# Altium schematic symbol library Schlib1.SchLib: 6 symbols
Pins are listed as number, name and electrical type; pins without a type are passive.

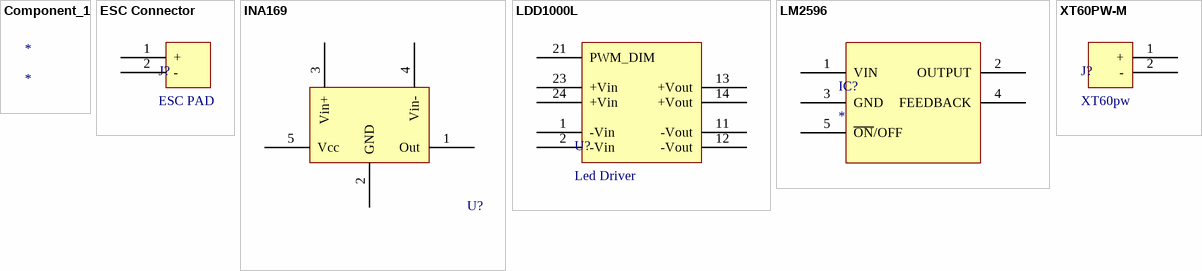
[diagram p0: symbols Component_1 to XT60PW-M]

## Component_1
designator *

## ESC Connector
designator J?, comment ESC PAD
footprint ESC Connector
pins: 1 +, 2 -

## INA169
designator U?
Current sensing IC
footprint INA169 (SOT23, 5-Leads, Body 2,90x2,80mm, Pitch 0,95mm, IPC Medium Density)
pins: 1 Out, 2 GND, 3 Vin+, 4 Vin-, 5 Vcc

## LDD1000L
designator U?, comment Led Driver
LDD 1000L 12V 1A; ComponentLink1Description: New link; ComponentLink1URL: https://www.meanwell-web.com/en-gb/dc-dc-step-down-led-driver-constant-current-cc-ldd--1000l
footprint LDD100l
pins: 1 -Vin, 2 -Vin, 11 -Vout, 12 -Vout, 13 +Vout, 14 +Vout, 21 PWM_DIM, 23 +Vin, 24 +Vin

## LM2596
designator IC?
footprint D2PAK
pins: 1 VIN, 2 OUTPUT, 3 GND, 4 FEEDBACK, 5 ~{ON}/OFF

## XT60PW-M
designator J?, comment XT60pw
xt60 90 degree Connector
footprint XT60_90degree
pins: 1 +, 2 -